# Altium schematic symbol library MIC24052YJL-TR.SchLib: 1 symbol
Pins are listed as number, name and electrical type; pins without a type are passive.

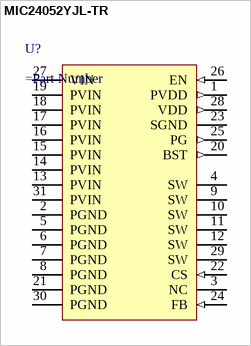
[diagram p0: symbol MIC24052YJL-TR]

## MIC24052YJL-TR
designator U?
=Description
pins: 1 PVDD (out), 2 PGND (power), 3 NC, 4 SW (power), 5 PGND (power), 6 PGND (power), 7 PGND (power), 8 PGND (power), 9 SW (power), 10 SW (power), 11 SW (power), 12 SW (power), 13 PVIN (power), 14 PVIN (power), 15 PVIN (power), 16 PVIN (power), 17 PVIN (power), 18 PVIN (power), 19 PVIN (power), 20 BST (out), 21 PGND (power), 22 CS (in), 23 SGND (power), 24 FB (in), 25 PG (out), 26 EN (in), 27 VIN (power), 28 VDD (out), 29 SW (power), 30 PGND (power), 31 PVIN (power)